# Altium footprint library jgoni.PcbLib: 4 footprints
Each footprint in its own frame and in the unit in brackets; x right, y up, seen from the top. Pads: shape width x height; smd on the part's side, far side on the other; paste and mask are expansions set on the pad; w line width, h text height; cw(c..) or ccw(c..) is an arc to the next point about the centre after c.
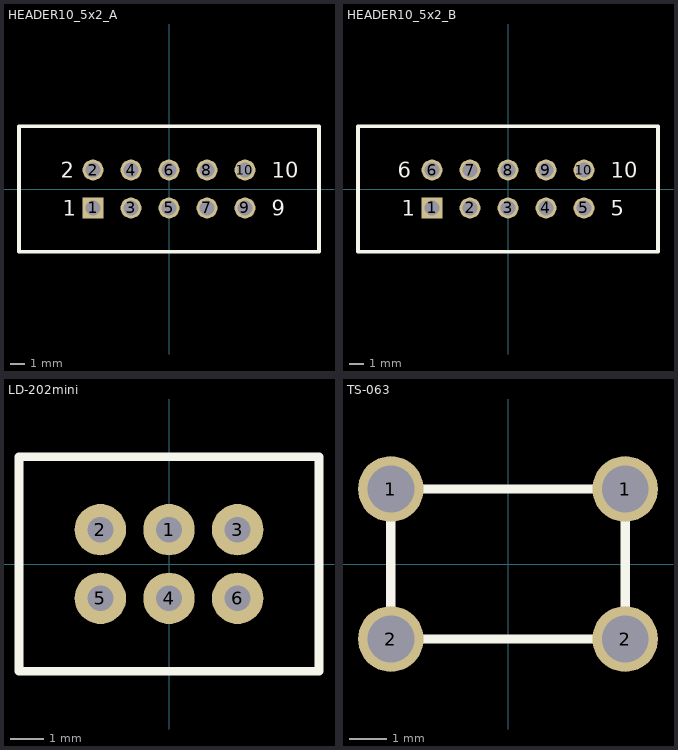
[diagram p0: the footprints below, top view; thin cyan lines are the x and y axes]

## HEADER10_5x2_A [mil] "Header con polaridad para 10 pines (5x2)"
pads (10):
  rect 55x55 hole 40: 1(-200,-50)
  round 55 hole 40: 2(-200,50) 3(-100,-50) 4(-100,50) 5(0,-50) 6(0,50) 7(100,-50) 8(100,50) 9(200,-50) 10(200,50)
Top Overlay:
  lines w10: -395,-165 -395,165 395,165 395,-165 -395,-165
  text "9" at 270,-70 h40
  text "10" at 270,30 h40
  text "2" at -285,30 h40
  text "1" at -280,-70 h40

## HEADER10_5x2_B [mil] "Header con polaridad para 10 pines (5x2)"
pads (10):
  rect 55x55 hole 40: 1(-200,-50)
  round 55 hole 40: 2(-100,-50) 3(0,-50) 4(100,-50) 5(200,-50) 6(-200,50) 7(-100,50) 8(0,50) 9(100,50) 10(200,50)
Top Overlay:
  lines w10: -395,-165 395,-165 395,165 -395,165 -395,-165
  text "1" at -280,-70 h40
  text "6" at -290,30 h40
  text "10" at 270,30 h40
  text "5" at 270,-70 h40

## LD-202mini [mil] "Doble inversor mini 90 grados"
pads (6):
  round 60 hole 30: 1(0,40) 2(-80,40) 3(80,40) 4(0,-40) 5(-80,-40) 6(80,-40)
Top Overlay:
  lines w10: -175,-125 -175,125 175,125 175,-125 -175,-125
Multi-Layer:
  rectangle: -175,-35 -135,35
  rectangle: 135,-35 175,40

## TS-063 [mil] "Boton normal abierto"
pads (4):
  round 70 hole 50: 1(-125,80) 1(125,80) 2(-125,-80) 2(125,-80)
Top Overlay:
  lines w10: -125,-80 -125,80 125,80 125,-80 -125,-80